# Altium footprint library Hotels_Lock_Main_V1.PcbLib: 28 footprints (part 1 of 2)
Each footprint in its own frame and in the unit in brackets; x right, y up, seen from the top. Pads: shape width x height; smd on the part's side, far side on the other; paste and mask are expansions set on the pad; w line width, h text height; cw(c..) or ccw(c..) is an arc to the next point about the centre after c.
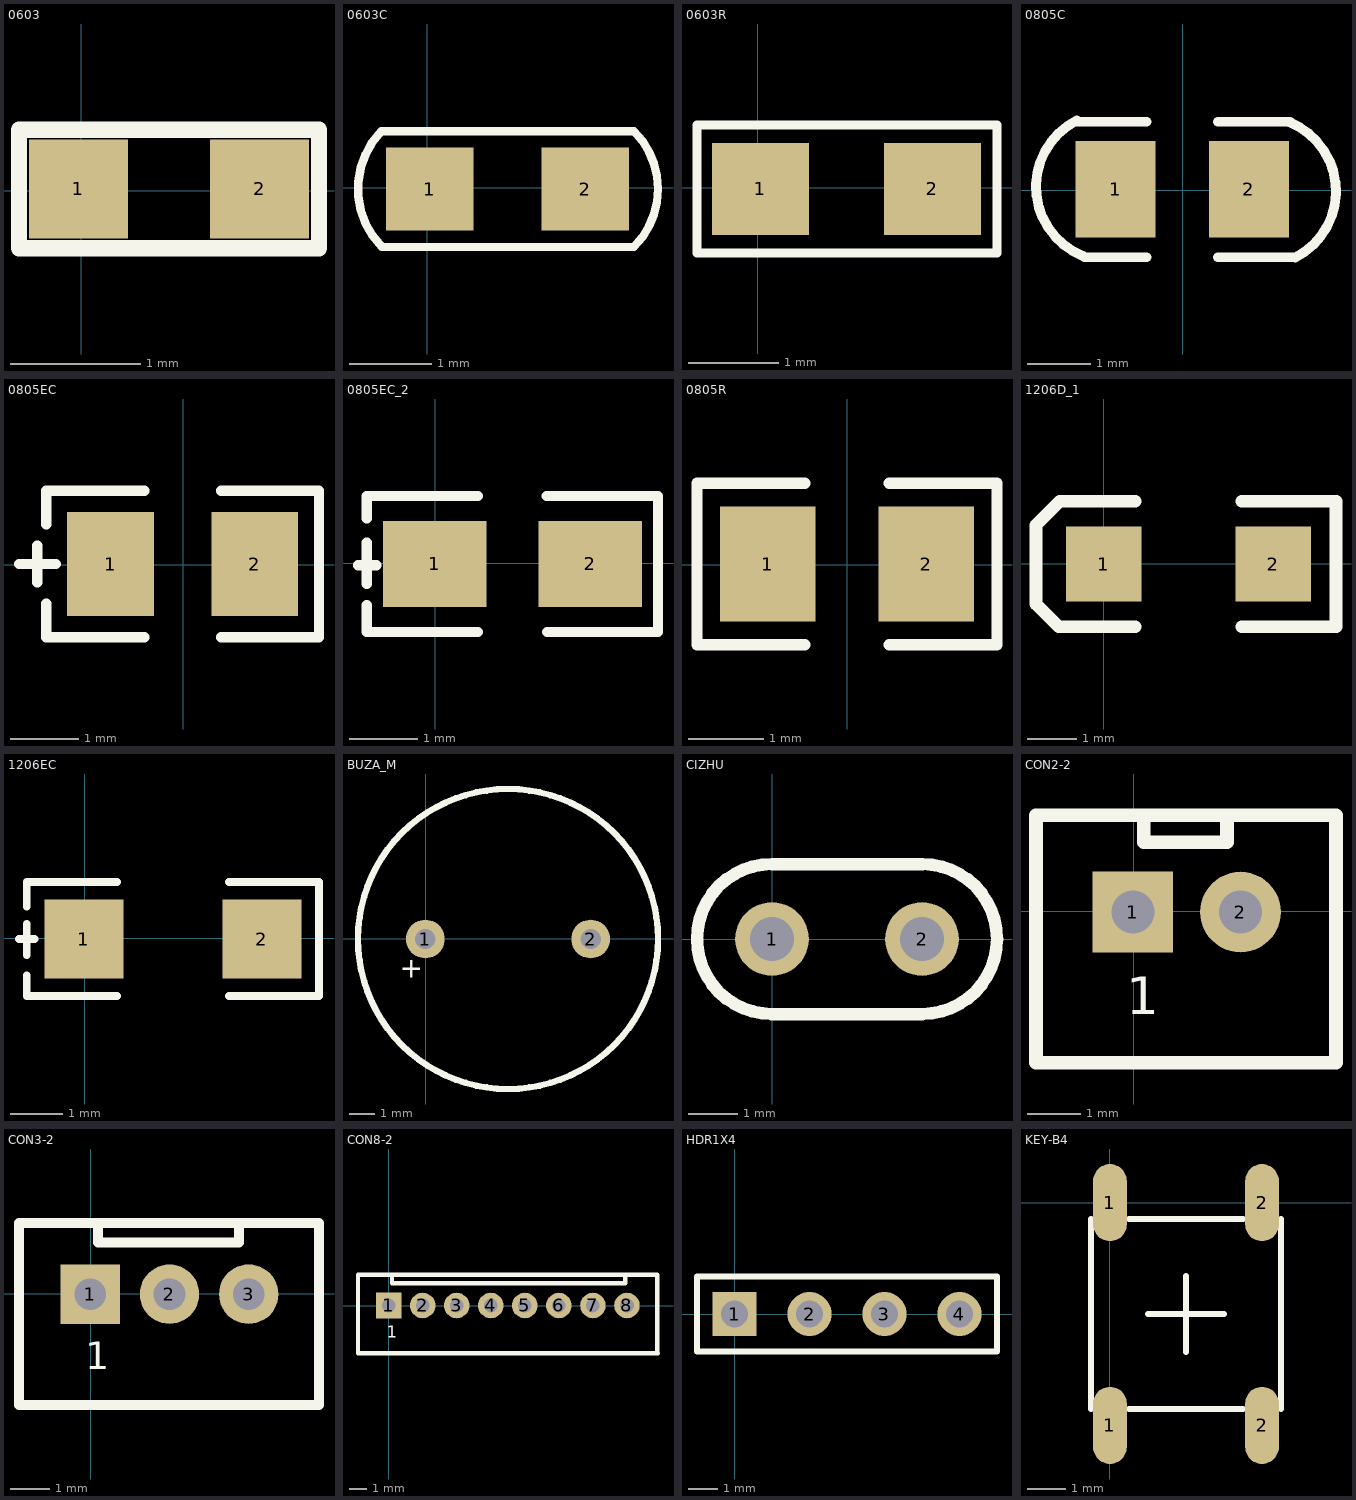
[diagram p0: the footprints below, top view; thin cyan lines are the x and y axes]

## 0603 [mil]
pads (2):
  rect 30x30 smd: 1(-0.84,0.5) 2(54.16,0.5)
Top Overlay:
  lines w5: -18.84,-17.5 -18.84,18.5 72.16,18.5 72.16,-17.5 -18.84,-17.5

## 0603C [mil]
pads (2):
  rect 42x40 smd: 1(1.15,-0.57) 2(75.61,-0.57)
Top Overlay:
  lines w4: -22.13,27.09 ccw(c6.42,-0.55) -22,-28.32 99,-28.32 ccw(c71.24,-0.57) 99,27.19 -21.35,27.19

## 0603R [mil]
pads (2):
  rect 42x40 smd: 1(1.15,-0.57) 2(75.61,-0.57)
Top Overlay:
  lines w4: -26.35,-28.32 103.65,-28.32 103.65,27.19 -26.35,27.19 -26.35,-28.32

## 0805C [mil]
pads (2):
  rect 50x60 smd: 1(-41.72,0.49) 2(41.28,0.49)
Top Overlay:
  lines w6: -66,42.64 -22.42,42.64 ; -65.79,43.42 ccw(c-44.87,2.06) -62,-41 ; -61,-41.66 -22.42,-41.66 ; 21.97,-41.66 70,-41.66 ; 21.97,42.64 67,42.64 ; 66.21,42.42 cw(c49.09,-0.64) 70,-42

## 0805EC [mil]
pads (2):
  rect 50x60 smd: 1(-41.72,0.49) 2(41.28,0.49)
Top Overlay:
  lines w6: -94.51,0.49 -73.24,0.49 ; -83.88,-10.14 -83.88,11.13 ; -78.72,-22.36 -78.72,-41.66 -22.42,-41.66 ; -78.72,23.34 -78.72,42.64 -22.42,42.64 ; 21.97,-41.66 78.28,-41.66 78.28,42.64 21.97,42.64

## 0805EC_2 [mil]
pads (2):
  rect 60x50 smd: 1(-0.19,-0.49) 2(89.81,-0.49)
Top Overlay:
  lines w6: -44.68,-1.27 -34.05,-1.27 ; -39.56,-24.42 -39.56,-39.86 24.81,-39.86 ; -39.56,-11.89 -39.56,11.73 ; -39.56,25.97 -39.56,38.88 24.81,38.88 ; 64.81,-39.86 129.18,-39.86 129.18,38.88 64.81,38.88

## 0805R [mil]
pads (2):
  rect 50x60 smd: 1(-41.72,0.49) 2(41.28,0.49)
Top Overlay:
  lines w6: -78.72,-30 -78.72,42.64 -22.42,42.64 ; -78.72,-22.36 -78.72,-41.66 -22.42,-41.66 ; 21.97,-41.66 78.28,-41.66 78.28,42.64 21.97,42.64

## 1206D_1 [mil]
pads (2):
  rect 60x60 smd: 1(-0.05,-0.13) 2(134.95,-0.13)
Top Overlay:
  lines w10: 24.95,-50.13 -35.87,-50.13 -54,-32 -54,30.87 -35,49.87 24.95,49.87 ; 109.95,-50.13 184.95,-50.13 184.95,49.87 109.95,49.87

## 1206EC [mil]
pads (2):
  rect 60x60 smd: 1(-0.5,-0.41) 2(134.5,-0.41)
Top Overlay:
  lines w6: -49.71,-0.41 -37.9,-0.41 ; -43.8,-28.02 -43.8,-43.72 24.5,-43.72 ; -43.8,-12.49 -43.8,11.14 ; -43.8,24.34 -43.8,42.89 24.5,42.89 ; 109.5,-43.72 177.81,-43.72 177.81,42.89 109.5,42.89

## BUZA_M [mil]
pads (2):
  round 60 hole 31.5: 1(-0.24,-0.55) 2(255.66,-0.55)
Top Overlay:
  circle w10: c127.71,-0.55 r232.28
  text "+" at -40.24,-60.55 h31.5

## CIZHU [mm]
pads (2):
  round 1.5 hole 0.9: 1(0,0) 2(3.048,0)
Top Overlay:
  lines w0.254: -1.524,0 ccw(c0,0) 0,-1.524 3.048,-1.524 ccw(c3.048,0) 4.572,0 ccw(c3.048,0) 3.048,1.524 0,1.524 ccw(c0,0) -1.524,0

## CON2-2 [mm]
pads (2):
  rect 1.5x1.5 hole 0.8: 1(-0.012,-0.012)
  round 1.5 hole 0.8: 2(1.988,-0.012)
Top Overlay:
  lines w0.254: 0.188,1.788 0.188,1.288 1.737,1.288 ; 1.738,1.788 1.738,1.288 ; 1.737,1.288 1.738,1.288 ; -1.812,-2.812 3.763,-2.812 3.763,1.788 -1.812,1.788 -1.812,-2.812
  text "1" at -0.138,-1.912 h0.7

## CON3-2 [mm]
pads (3):
  rect 1.5x1.5 hole 0.8: 1(-0.012,-0.01)
  round 1.5 hole 0.8: 2(1.988,-0.01) 3(3.988,-0.01)
Top Overlay:
  lines w0.254: 0.188,1.79 0.188,1.29 3.737,1.29 3.738,1.79 ; -1.812,-2.81 5.763,-2.81 5.763,1.79 -1.812,1.79 -1.812,-2.81
  text "1" at -0.138,-1.91 h0.7

## CON8-2 [mm]
pads (8):
  rect 1.5x1.5 hole 0.8: 1(0.001,0.013)
  round 1.5 hole 0.8: 2(2.001,0.013) 3(4.001,0.013) 4(6.001,0.013) 5(8.001,0.013) 6(10.001,0.013) 7(12.001,0.013) 8(14.001,0.013)
Top Overlay:
  lines w0.254: 0.201,1.813 0.201,1.313 13.894,1.313 13.894,1.813 ; 15.748,1.813 -1.799,1.813 -1.799,-2.787 15.824,-2.787 ; 15.779,-2.787 15.779,1.813
  text "1" at -0.124,-1.887 h0.7

## HDR1X4 [mm] "Connector; Header; 4 Position"
pads (4):
  rect 1.5x1.5 hole 0.9: 1(0,0)
  round 1.5 hole 0.9: 2(2.54,0) 3(5.08,0) 4(7.62,0)
Top Overlay:
  lines w0.2: -1.27,-1.27 8.89,-1.27 8.89,1.27 -1.27,1.27 -1.27,-1.27

## KEY-B4 [mil]
pads (4):
  oval 35x80 smd: 1(0,-230.7) 1(0,0) 2(157.48,-230.7) 2(157.48,0)
Top Overlay:
  lines w6: -19.68,-213.78 -19.68,-16.93 ; 19.68,-213.78 137.79,-213.78 ; 19.68,-16.93 137.79,-16.93 ; 39.37,-115.35 78.74,-115.35 ; 78.74,-154.72 78.74,-115.35 ; 78.74,-75.98 78.74,-115.35 ; 118.11,-115.35 78.74,-115.35 ; 177.16,-213.78 177.16,-16.93